# Altium schematic symbol library 744314330.SchLib: 1 symbol
Pins are listed as number, name and electrical type; pins without a type are passive.

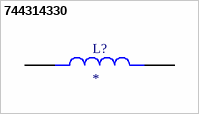
[diagram p0: symbol 744314330]

## 744314330
designator L?
Inductor SMD 7050 3.3 ÂµH 9 A Wuerth Elektronik WE-HCI 744314330 1 pc(s); MF: {'manufacturer': u'Wurth Electronics'}; MP: 744314330; Value: *; Package: None; Price: None; Availability: Unavailable
footprint IND_744314330
pins: 1, 2